# Altium footprint library PT100.PcbLib: 1 footprints
Each footprint in its own frame and in the unit in brackets; x right, y up, seen from the top. Pads: shape width x height; smd on the part's side, far side on the other; paste and mask are expansions set on the pad; w line width, h text height; cw(c..) or ccw(c..) is an arc to the next point about the centre after c.
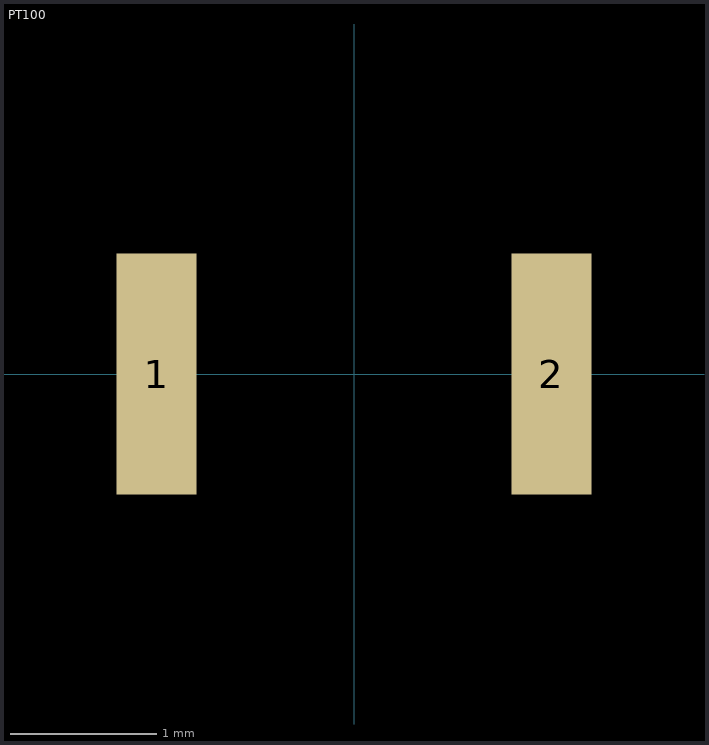
[diagram p0: the footprint, top view; thin cyan lines are the x and y axes]

## PT100 [mm]
pads (2):
  rect 0.55x1.65 smd: 1(-1.35,0) 2(1.35,0)
3D body "32207590.stp": height 0.6, standoff 0, extent -1.6,-0.8 1.6,0.8